# EAGLE library part MOTHER-BOARD-REV5_SN74CB3Q3257PWR (library Mother-Board-rev5)
FET MULTIPLEXER/DEMULTIPLEXER,TSSOP-16
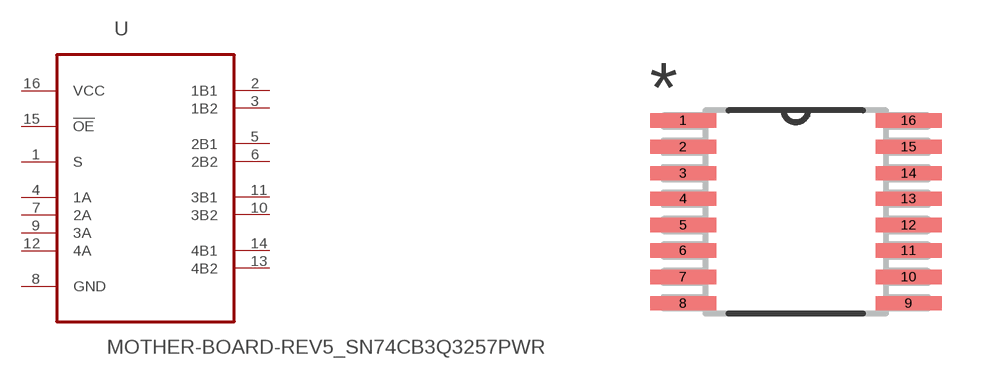
[diagram p5: symbol with the pads of MOTHER-BOARD-REV5_SOP65P640X120-16N; footprint MOTHER-BOARD-REV5_SOP65P640X120-16N]

Designator prefix U

## MOTHER-BOARD-REV5_SN74CB3Q3257PWR (MPN: SN74CB3Q3257PWR; OC_FARNELL: 2146276; OC_NEWARK: 94T5035; PACKAGE: TSSOP-16; SUPPLIER: TEXAS INSTRUMENTS)  [MOTHER-BOARD-REV5_SOP65P640X120-16N]
1  S  in
2  1B1  out
3  1B2  out
4  1A  in
5  2B1  out
6  2B2  out
7  2A  in
8  GND  pas
9  3A  in
10  3B2  out
11  3B1  out
12  4A  in
13  4B2  out
14  4B1  out
15  !OE  in
16  VCC  pwr

## Footprint MOTHER-BOARD-REV5_SOP65P640X120-16N (pad centres in mm)
smd 1.651 x 0.356: 1 -2.819,2.286; 2 -2.819,1.626; 3 -2.819,0.965; 4 -2.819,0.33; 5 -2.819,-0.33; 6 -2.819,-0.965; 7 -2.819,-1.626; 8 -2.819,-2.286; 9 2.819,-2.286; 10 2.819,-1.626; 11 2.819,-0.965; 12 2.819,-0.33; 13 2.819,0.33; 14 2.819,0.965; 15 2.819,1.626; 16 2.819,2.286